# Altium footprint library US-8_L2.4-W2.1-P0.50-LS3.2-BR_2021-01-09.PcbLib: 1 footprints
Each footprint in its own frame and in the unit in brackets; x right, y up, seen from the top. Pads: shape width x height; smd on the part's side, far side on the other; paste and mask are expansions set on the pad; w line width, h text height; cw(c..) or ccw(c..) is an arc to the next point about the centre after c.
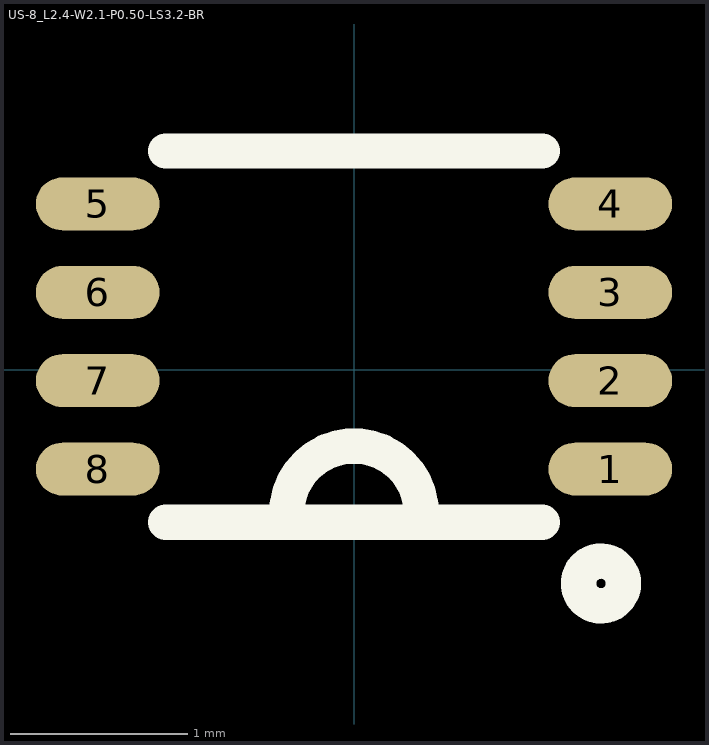
[diagram p0: the footprint, top view; thin cyan lines are the x and y axes]

## US-8_L2.4-W2.1-P0.50-LS3.2-BR [mm]
pads (8):
  oval 0.7x0.3 smd: 1(1.45,-0.563) 2(1.45,-0.063) 3(1.45,0.437) 4(1.45,0.937) 5(-1.45,0.937) 6(-1.45,0.437) 7(-1.45,-0.063) 8(-1.45,-0.563)
Top Overlay:
  circle w0.2: c1.397,-1.21 r0.127
  lines w0.2: -1.064,-0.863 1.064,-0.863 ; -1.064,1.237 0,1.237 1.064,1.237 ; -0.381,-0.829 cw(c0,-0.813) 0.381,-0.829